# Altium footprint library Footprints_IC.PcbLib: 5 footprints
Each footprint in its own frame and in the unit in brackets; x right, y up, seen from the top. Pads: shape width x height; smd on the part's side, far side on the other; paste and mask are expansions set on the pad; w line width, h text height; cw(c..) or ccw(c..) is an arc to the next point about the centre after c.
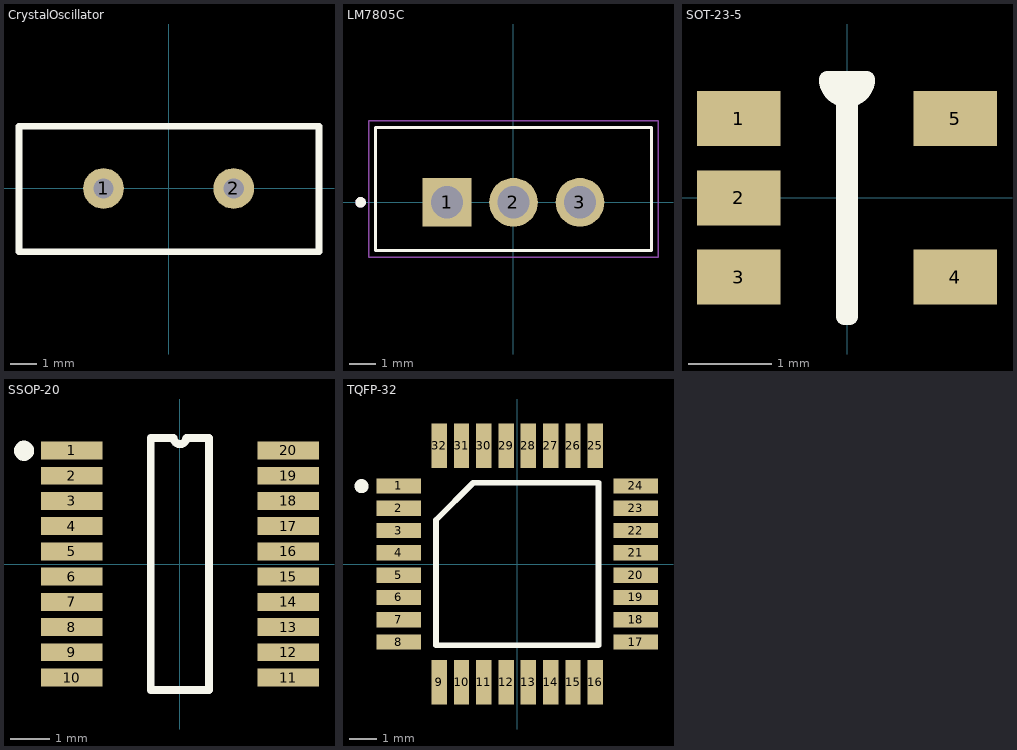
[diagram p0: the footprints below, top view; thin cyan lines are the x and y axes]

## CrystalOscillator [mil] "Crystal Oscillator THT"
pads (2):
  round 60 hole 30: 1(-96.06,0) 2(96.06,0)
Top Overlay:
  lines w10: -220.87,0 -220.87,91.73 ; -220.87,91.73 222.05,91.73 222.05,-93.31 -220.87,-93.31 -220.87,91.73
3D body "crystal oscillator.STEP": height 138.3, standoff -117.61, extent -217.52,-91.54 217.52,91.54

## LM7805C [mm]
pads (3):
  rect 1.86x1.86 / inner round 1.86 / far side rect 1.86x1.86 hole 1.24: 1(-2.54,0)
  round 1.86 hole 1.24: 2(0,0) 3(2.54,0)
Top Overlay:
  circle w0.2: c-5.84,0 r0.1
  lines w0.127: -5.27,-1.84 5.27,-1.84 5.27,2.86 -5.27,2.86 -5.27,-1.84
Mechanical 13:
  circle w0.2: c-5.84,0 r0.1
  lines w0.127: -5.27,-1.84 5.27,-1.84 5.27,2.86 -5.27,2.86 -5.27,-1.84
Mechanical 15:
  lines w0.05: -5.52,-2.09 5.52,-2.09 5.52,3.11 -5.52,3.11 -5.52,-2.09
3D body "7805ISO_90.SLDPRT": height 4.58, standoff -7.27, extent -5,0 5,19.532

## SOT-23-5 [mm]
pads (5):
  rect 1x0.66 smd mask+0.05: 1(-1.3,0.95) 2(-1.3,0) 3(-1.3,-0.95) 4(1.3,-0.95) 5(1.3,0.95)
Top Overlay:
  lines w0.2: -0.238,1.425 ccw(c0,1.425) 0.238,1.425 -0.035,1.425 -0.035,-1.425 0.035,-1.425 0.035,1.425 -0.238,1.425
3D body "MIC5504-3.3YM5-TR.stp": height 1.45, standoff 0, extent -1.4,-1.45 1.4,1.45

## SSOP-20 [mm]
pads (20):
  rect 1.55x0.45 smd mask+0.05: 1(-2.724,2.857) 2(-2.724,2.222) 3(-2.724,1.587) 4(-2.724,0.953) 5(-2.724,0.318) 6(-2.724,-0.318) 7(-2.724,-0.953) 8(-2.724,-1.587) 9(-2.724,-2.222) 10(-2.724,-2.857) 11(2.724,-2.857) 12(2.724,-2.222) 13(2.724,-1.587) 14(2.724,-0.953) 15(2.724,-0.318) 16(2.724,0.318) 17(2.724,0.953) 18(2.724,1.587) 19(2.724,2.222) 20(2.724,2.857)
Top Overlay:
  circle w0.254: c-3.925,2.85 r0.127
  lines w0.2: -0.735,-3.175 0.735,-3.175 0.735,3.175 0.159,3.175 cw(c0,3.175) -0.159,3.175 -0.735,3.175 -0.735,-3.175
3D body "FT231XS-U.stp": height 1.75, standoff 0, extent -2.997,-4.324 2.997,4.324

## TQFP-32 [mm]
pads (32):
  rect 1.6x0.55 smd mask+0.05: 1(-4.25,2.8) 2(-4.25,2) 3(-4.25,1.2) 4(-4.25,0.4) 5(-4.25,-0.4) 6(-4.25,-1.2) 7(-4.25,-2) 8(-4.25,-2.8) 17(4.25,-2.8) 18(4.25,-2) 19(4.25,-1.2) 20(4.25,-0.4) 21(4.25,0.4) 22(4.25,1.2) 23(4.25,2) 24(4.25,2.8)
  rect 0.55x1.6 smd mask+0.05: 9(-2.8,-4.25) 10(-2,-4.25) 11(-1.2,-4.25) 12(-0.4,-4.25) 13(0.4,-4.25) 14(1.2,-4.25) 15(2,-4.25) 16(2.8,-4.25) 25(2.8,4.25) 26(2,4.25) 27(1.2,4.25) 28(0.4,4.25) 29(-0.4,4.25) 30(-1.2,4.25) 31(-2,4.25) 32(-2.8,4.25)
Top Overlay:
  circle w0.254: c-5.588,2.794 r0.127
  lines w0.2: -2.915,-2.915 2.915,-2.915 2.915,2.915 -1.58,2.915 -2.915,1.58 -2.915,-2.915
3D body "ATMEGA328-AU.stp": height 1.2, standoff 0, extent -4.5,-4.5 4.5,4.5